# EAGLE library part STM8_DEV_NOFLASHPIN (library STM8-blue)
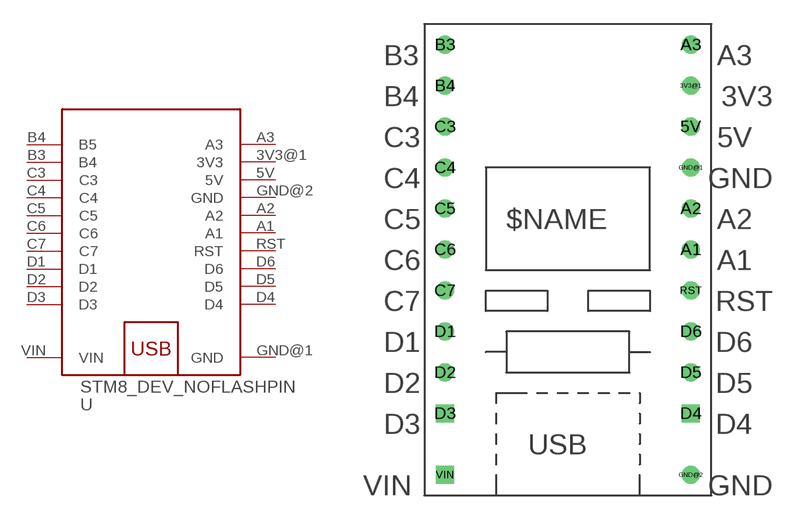
[diagram p1: symbol with the pads of NO_FLASH_PIN; footprint NO_FLASH_PIN]

Designator prefix -

## STM8_DEV_NOFLASHPIN  [NO_FLASH_PIN]
3V3@1  3V3  pwr
5V  5V  pwr
A1  A1
A2  A2
A3  A3  pwr
B3  B4
B4  B5
C3  C3
C4  C4
C5  C5
C6  C6
C7  C7
D1  D1
D2  D2
D3  D3
D4  D4
D5  D5
D6  D6
GND@1  GND  pwr
GND@2  GND  pwr
RST  RST
VIN  VIN  pwr

## Footprint NO_FLASH_PIN (pad centres in mm)
drill 0.6: 3V3@1 7.62,8.89; 5V 7.62,6.35; A1 7.62,-1.27; A2 7.62,1.27; A3 7.62,11.43; B3 -7.62,11.43; B4 -7.62,8.89; C3 -7.62,6.35; C4 -7.62,3.81; C5 -7.62,1.27; C6 -7.62,-1.27; C7 -7.62,-3.81; D1 -7.62,-6.35; D2 -7.62,-8.89; D5 7.62,-8.89; D6 7.62,-6.35; GND@1 7.62,3.81; GND@2 7.62,-15.24; RST 7.62,-3.81
drill 0.6 square: D3 -7.62,-11.43; D4 7.62,-11.43; VIN -7.62,-15.24